# Altium footprint library SuperBot_PcbLib1.PcbLib: 44 footprints (part 1 of 3)
Each footprint in its own frame and in the unit in brackets; x right, y up, seen from the top. Pads: shape width x height; smd on the part's side, far side on the other; paste and mask are expansions set on the pad; w line width, h text height; cw(c..) or ccw(c..) is an arc to the next point about the centre after c.
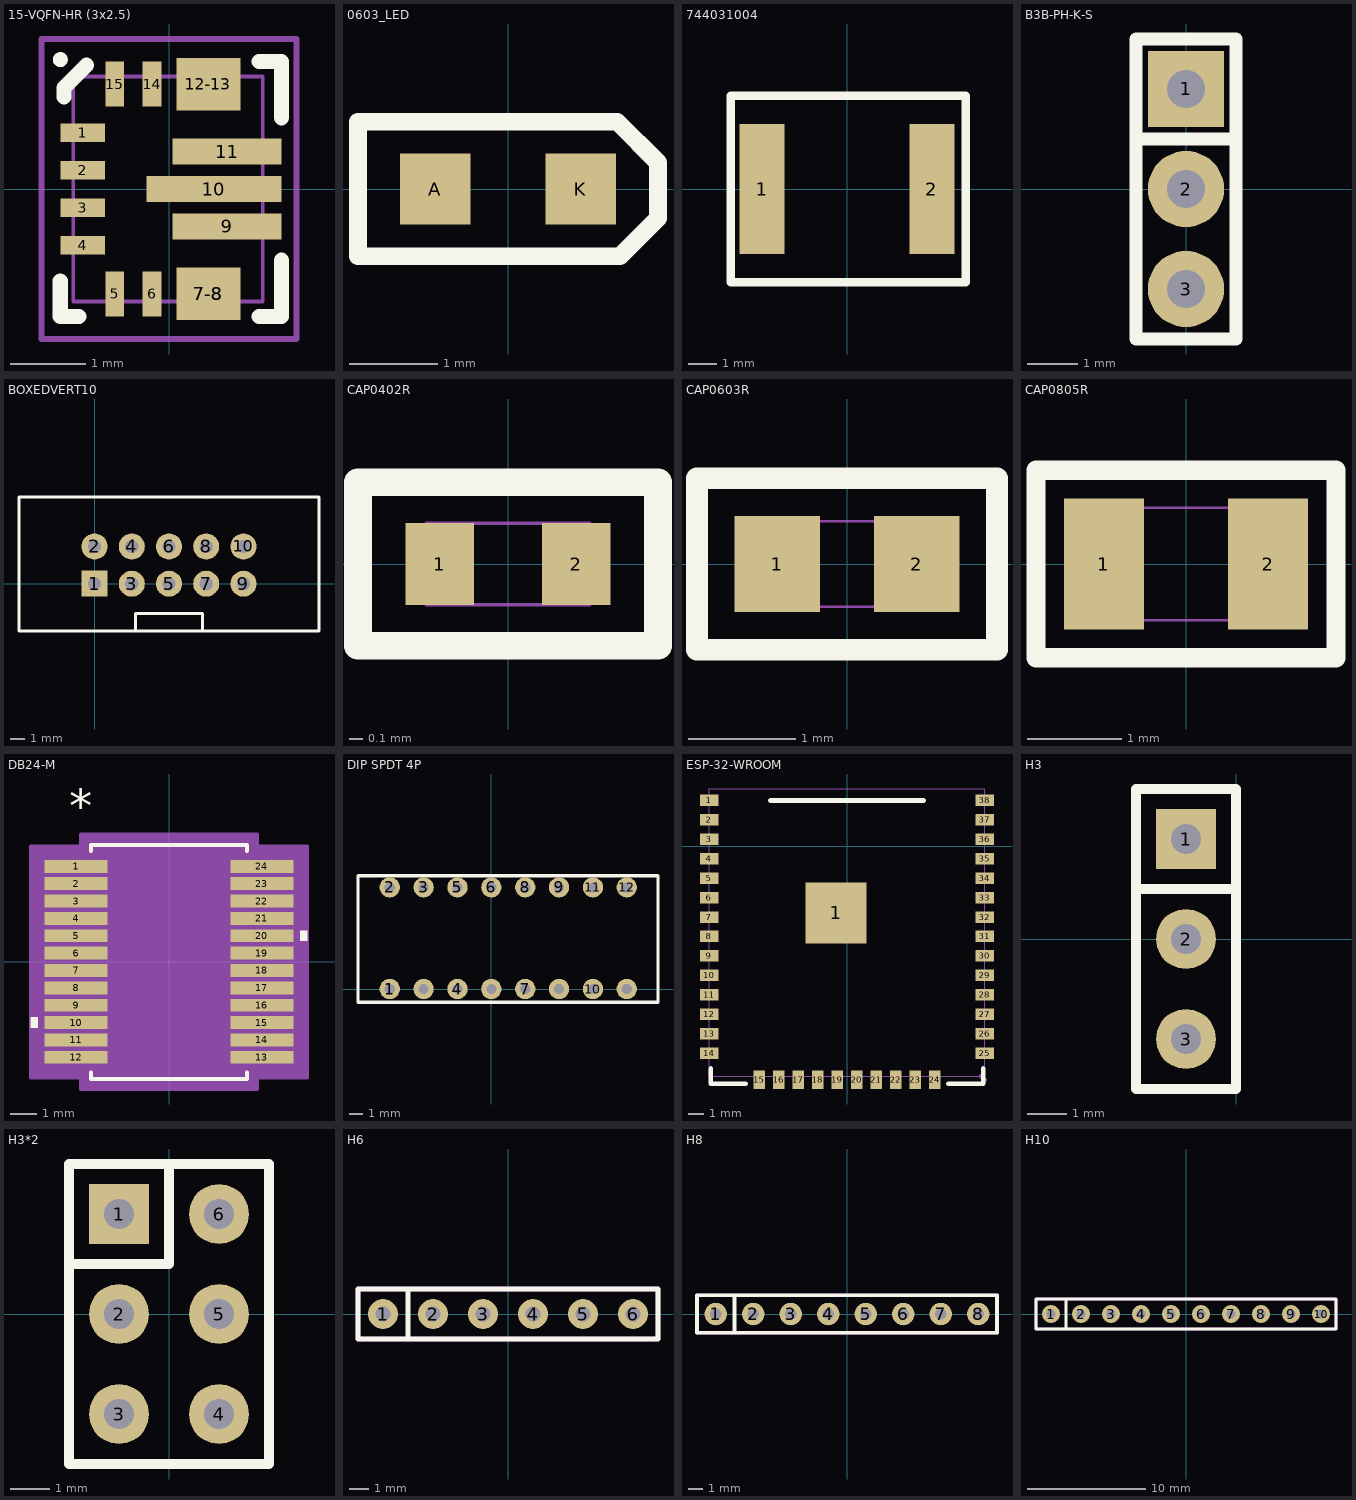
[diagram p0: the footprints below, top view; thin cyan lines are the x and y axes]

## 15-VQFN-HR (3x2.5) [mm] "TPS63070RNMR 15-VQFN-HR (3x2.5)"
height 1
pads (14):
  rect 0.6x0.25 smd: 1(-1.15,0.75) 2(-1.15,0.25) 3(-1.15,-0.25) 4(-1.15,-0.75)
  rect 0.25x0.6 smd: 5(-0.725,-1.4) 6(-0.225,-1.4) 14(-0.225,1.4) 15(-0.725,1.4)
  rect 0.85x0.7 smd mask-0.001: 7-8(0.525,-1.4) 7-8(0.525,-1.4) 12-13(0.525,1.4)
  rect 1.45x0.35 smd: 9(0.775,-0.5) 11(0.775,0.5)
  rect 1.8x0.35 smd: 10(0.6,0)
Top Overlay:
  circle w0.1: c-1.45,1.725 r0.05
  lines w0.203: -1.45,-1.225 -1.45,-1.7 -1.2,-1.7 ; -1.4,1.225 -1.4,1.35 -1.1,1.65 ; 1.2,-1.7 1.5,-1.7 1.5,-0.95 ; 1.2,1.7 1.5,1.7 1.5,0.95
Top Paste:
  region: 0.702,0.125 1.42,0.125 1.42,-0.125 0.702,-0.125
  region: -0.22,0.125 0.5,0.125 0.5,-0.125 -0.22,-0.125
  region: 0.877,0.625 1.451,0.625 1.451,0.375 0.877,0.375
  region: 0.101,0.625 0.676,0.625 0.676,0.375 0.101,0.375
  region: 0.878,-0.375 1.451,-0.375 1.451,-0.627 0.878,-0.627
  region: 0.101,-0.375 0.676,-0.375 0.676,-0.626 0.101,-0.626
  region: 0.4,-1.705 0.15,-1.705 0.15,-1.1 0.4,-1.1
  region: 0.65,-1.354 0.401,-1.354 0.401,-1.1 0.65,-1.1
  region: 0.9,-1.703 0.651,-1.703 0.651,-1.1 0.9,-1.1
  region: 0.652,1.7 0.9,1.7 0.9,1.103 0.652,1.103
  region: 0.4,1.35 0.65,1.35 0.65,1.101 0.4,1.101
  region: 0.15,1.7 0.4,1.7 0.4,1.101 0.15,1.101
Top Solder:
  region: -1.501,-0.426 -1.501,-0.075 -0.8,-0.075 -0.8,-0.426
  region: -1.501,-0.926 -1.501,-0.575 -0.8,-0.575 -0.8,-0.926
  region: -1.501,0.574 -1.501,0.926 -0.801,0.926 -0.801,0.574
  region: -1.501,0.074 -1.501,0.426 -0.801,0.426 -0.801,0.074
  region: -0.401,-1.05 -0.05,-1.05 -0.05,-1.754 -0.401,-1.754
  region: -0.902,-1.05 -0.55,-1.05 -0.55,-1.753 -0.902,-1.753
  region: -0.401,1.75 -0.05,1.75 -0.05,1.052 -0.401,1.052
  region: -0.901,1.75 -0.55,1.75 -0.55,1.052 -0.901,1.052
  region: 0.1,-0.375 1.45,-0.375 1.45,-0.626 0.1,-0.626
  region: -0.25,0.125 1.45,0.125 1.45,-0.125 -0.25,-0.125
  region: 0.1,0.625 1.45,0.625 1.45,0.376 0.1,0.376
  region: 0.651,1.7 0.9,1.7 0.9,1.102 0.651,1.102
  region: 0.4,1.35 0.65,1.35 0.65,1.101 0.4,1.101
  region: 0.15,1.7 0.4,1.7 0.4,1.101 0.15,1.101
  region: 0.651,-1.1 0.9,-1.1 0.9,-1.702 0.651,-1.702
  region: 0.401,-1.1 0.65,-1.1 0.65,-1.353 0.401,-1.353
  region: 0.15,-1.1 0.4,-1.1 0.4,-1.703 0.15,-1.703
Mechanical 1:
  lines w0.05: -1.275,-1.5 -1.275,1.5 1.25,1.5 1.25,-1.5 -1.275,-1.5
Mechanical 15:
  lines w0.076: -1.7,-2 -1.7,2 1.7,2 1.7,-2 -1.7,-2
3D body: height 1, standoff 0, extent -1.25,-1.5 1.25,1.5

## 0603_LED [mm]
pads (2):
  rect 0.8x0.8 smd: A(-0.825,0) K(0.825,0)
Top Overlay:
  lines w0.2: -1.7,-0.762 1.27,-0.762 1.7,-0.332 1.7,0.3 1.238,0.762 -1.7,0.762 -1.7,0.153 -1.7,-0.762

## 744031004 [mm] "Wurth Inductor"
height 1.65
pads (2):
  rect 1.6x4.6 smd: 1(-3,0) 2(3,0)
Top Overlay:
  lines w0.3: -4.1,-3.3 -4.1,3.3 4.2,3.3 4.2,-3.3 -4.1,-3.3
3D body "STEP-WE-TPC-3816-rev1.stp": height 1.65, standoff 0, extent -1.9,-1.9 1.9,1.9

## B3B-PH-K-S [mil]
pads (3):
  rect 60x60 hole 30: 1(0,78.74)
  round 60 hole 30: 2(0,0) 3(0,-78.74)
Top Overlay:
  lines w10: -39.37,39.37 39.37,39.37 ; -39.37,-118.11 -39.37,118.11 39.37,118.11 39.37,-118.11 -39.37,-118.11

## BOXEDVERT10 [mil] "IDC Header 2.54mm Boxed 10 pins"
height 346.46
pads (10):
  rect 70x70 hole 35.43: 1(0,0)
  round 70 hole 35.43: 2(0,100) 3(100,0) 4(100,100) 5(200,0) 6(200,100) 7(300,0) 8(300,100) 9(400,0) 10(400,100)
Top Overlay:
  lines w7.87: 110,-123.31 110,-80 290,-80 290,-123.31 ; -203,-126.5 -203,232.41 603,232.41 603,-126.5 -203,-126.5
3D body "User Library-BH-10__64 (3).step": height 358.87, standoff -117.51, extent -203.54,-129.13 603.55,237.01

## CAP0402R [mm] "Capacitor 0402 reflow soldering"
pads (2):
  rect 0.5x0.6 smd: 1(-0.5,0) 2(0.5,0)
Top Overlay:
  lines w0.203: -1.1,-0.6 -1.1,0.6 1.1,0.6 1.1,-0.6 -1.1,-0.6
Mechanical 15:
  lines w0.025: -0.6,-0.3 -0.6,0.3 0.6,0.3 0.6,-0.3 -0.6,-0.3
3D body "CAP0402.stp": height 0.2, standoff 0, extent -0.5,-0.3 0.5,0.3

## CAP0603R [mm] "capacitor 0603 reflow soldering"
pads (2):
  rect 0.8x0.9 smd: 1(-0.65,0) 2(0.65,0)
Top Overlay:
  lines w0.203: -1.4,-0.8 -1.4,0.8 1.4,0.8 1.4,-0.8 -1.4,-0.8
Mechanical 15:
  lines w0.025: -0.8,-0.4 -0.8,0.4 0.8,0.4 0.8,-0.4 -0.8,-0.4
3D body "CAP0603.stp": height 0.3, standoff 0, extent -0.8,-0.4 0.8,0.4

## CAP0805R [mm] "capacitor 0805 reflow soldering"
pads (2):
  rect 0.85x1.4 smd: 1(-0.875,0) 2(0.875,0)
Top Overlay:
  lines w0.203: -1.6,-1 1.6,-1 1.6,1 -1.6,1 -1.6,-1
Mechanical 15:
  lines w0.025: -1.1,-0.6 1.1,-0.6 1.1,0.6 -1.1,0.6 -1.1,-0.6
3D body "CAP0805.stp": height 0.78, standoff 0, extent -1,-0.625 1,0.625

## DB24-M [mil]
pads (24):
  rect 93x19 smd paste+0 mask+0: 1(-137,140.75) 2(-137,115.16) 3(-137,89.57) 4(-137,63.98) 5(-137,38.39) 6(-137,12.8) 7(-137,-12.8) 8(-137,-38.39) 9(-137,-63.98) 10(-137,-89.57) 11(-137,-115.16) 12(-137,-140.75) 13(137,-140.75) 14(137,-115.16) 15(137,-89.57) 16(137,-63.98) 17(137,-38.39) 18(137,-12.8) 19(137,12.8) 20(137,38.39) 21(137,63.98) 22(137,89.57) 23(137,115.16) 24(137,140.75)
Top Overlay:
  region: 193.5,45.89 203.5,45.89 203.5,30.89 193.5,30.89
  region: -193.5,-82.07 -203.5,-82.07 -203.5,-97.07 -193.5,-97.07
  lines w6: -115,-163.35 -115,-172.5 115,-172.5 115,-163.35 ; -115,163.35 -115,172.5 115,172.5 115,163.35
  text "*" at -147,204.75 h50
Mechanical 13:
  lines w0: -12,167.5 ccw(c0,167.5) 12,167.5
  lines w1: -161.5,-148.25 -110,-148.25 -110,-133.25 -161.5,-133.25 -161.5,-148.25 ; -161.5,-122.66 -110,-122.66 -110,-107.66 -161.5,-107.66 -161.5,-122.66 ; -161.5,-97.07 -110,-97.07 -110,-82.07 -161.5,-82.07 -161.5,-97.07 ; -161.5,-71.48 -110,-71.48 -110,-56.48 -161.5,-56.48 -161.5,-71.48 ; -161.5,-45.89 -110,-45.89 -110,-30.89 -161.5,-30.89 -161.5,-45.89 ; -161.5,-20.3 -110,-20.3 -110,-5.3 -161.5,-5.3 -161.5,-20.3 ; -161.5,5.3 -110,5.3 -110,20.3 -161.5,20.3 -161.5,5.3 ; -161.5,30.89 -110,30.89 -110,45.89 -161.5,45.89 -161.5,30.89 ; -161.5,56.48 -110,56.48 -110,71.48 -161.5,71.48 -161.5,56.48 ; -161.5,82.07 -110,82.07 -110,97.07 -161.5,97.07 -161.5,82.07 ; -161.5,107.66 -110,107.66 -110,122.66 -161.5,122.66 -161.5,107.66 ; -161.5,133.25 -110,133.25 -110,148.25 -161.5,148.25 -161.5,133.25 ; -110,-167.5 -110,167.5 110,167.5 110,-167.5 -110,-167.5 ; 110,-148.25 161.5,-148.25 161.5,-133.25 110,-133.25 110,-148.25 ; 110,-122.66 161.5,-122.66 161.5,-107.66 110,-107.66 110,-122.66 ; 110,-97.07 161.5,-97.07 161.5,-82.07 110,-82.07 110,-97.07 ; 110,-71.48 161.5,-71.48 161.5,-56.48 110,-56.48 110,-71.48 ; 110,-45.89 161.5,-45.89 161.5,-30.89 110,-30.89 110,-45.89 ; 110,-20.3 161.5,-20.3 161.5,-5.3 110,-5.3 110,-20.3 ; 110,5.3 161.5,5.3 161.5,20.3 110,20.3 110,5.3 ; 110,30.89 161.5,30.89 161.5,45.89 110,45.89 110,30.89 ; 110,56.48 161.5,56.48 161.5,71.48 110,71.48 110,56.48 ; 110,82.07 161.5,82.07 161.5,97.07 110,97.07 110,82.07 ; 110,107.66 161.5,107.66 161.5,122.66 110,122.66 110,107.66 ; 110,133.25 161.5,133.25 161.5,148.25 110,148.25 110,133.25
  text "*" at -95,164.5 h50
Mechanical 15:
  region: -130,-170.25 -203.5,-170.25 -203.5,170.25 -130,170.25 -130,187.5 130,187.5 130,170.25 203.5,170.25 203.5,-170.25 130,-170.25 130,-187.5 -130,-187.5
  lines w6: -203.5,-170.25 -130,-170.25 -130,-187.5 130,-187.5 130,-170.25 203.5,-170.25 203.5,170.25 130,170.25 130,187.5 -130,187.5 -130,170.25 -203.5,170.25 -203.5,-170.25
3D body: height 10, standoff 0, extent 0,0 10,10

## DIP SPDT 4P [mil] "Dip Switch SPDT 4 Position Through Hole Slide (Standard) Actuator 50mA 24VDC"
pads (16):
  round 60 hole 30: 1(-300,0) 2(-300,300) 3(-200,300) 4(-100,0) 5(-100,300) 6(0,300) 7(100,0) 8(100,300) 9(200,300) 10(300,0) 11(300,300) 12(400,300) ""(-200,0) ""(0,0) ""(200,0) ""(400,0)
Top Overlay:
  lines w10: -393.7,-39.37 51.18,-39.37 492.13,-39.37 492.13,334.65 -393.7,334.65 -393.7,-39.37
  text "." at -429.13,23.62 h59.06

## ESP-32-WROOM [mm]
pads (39):
  rect 1.2x0.75 smd: 1(-9,3.01) 2(-9,1.74) 3(-9,0.47) 4(-9,-0.8) 5(-9,-2.07) 6(-9,-3.34) 7(-9,-4.61) 8(-9,-5.88) 9(-9,-7.15) 10(-9,-8.42) 11(-9,-9.69) 12(-9,-10.96) 13(-9,-12.23) 14(-9,-13.5) 25(9,-13.5) 26(9,-12.23) 27(9,-10.96) 28(9,-9.69) 29(9,-8.42) 30(9,-7.15) 31(9,-5.88) 32(9,-4.61) 33(9,-3.34) 34(9,-2.07) 35(9,-0.8) 36(9,0.47) 37(9,1.74) 38(9,3.01)
  rect 4x4 smd: 1(-0.711,-4.343)
  rect 0.75x1.2 smd: 15(-5.715,-15.24) 16(-4.445,-15.24) 17(-3.175,-15.24) 18(-1.905,-15.24) 19(-0.635,-15.24) 20(0.635,-15.24) 21(1.905,-15.24) 22(3.175,-15.24) 23(4.445,-15.24) 24(5.715,-15.24)
Top Overlay:
  lines w0.3: -8.9,-14.5 -8.9,-15.5 -6.6,-15.5 ; -5,3 5,3 ; 6.6,-15.5 8.9,-15.5 8.9,-14.5
Mechanical 15:
  lines w0.025: 8.75,-15 -9,-15 -9,3.75 9,3.75 9,-15.25
  lines w0.3: 8.75,-15 9,-15.25
3D body "KiCAD-ESP-WROOM-32.step": height 3.04, standoff 0, extent -9.035,-15.028 9.035,10.512

## H3 [mil] "Headers 0.1mil pitch"
pads (3):
  rect 60x60 hole 30: 1(-50,100)
  round 60 hole 30: 2(-50,0) 3(-50,-100)
Top Overlay:
  lines w10: -100,50 0,50 ; -100,-150 -100,150 0,150 0,-150 -100,-150
3D body: height 98.43, standoff 0, extent -100,50 0.01,150
3D body: height 334.65, standoff -118.11, extent -62.69,87.23 -37.2,112.77
3D body: height 98.43, standoff 0, extent -100,-150 0.01,-50
3D body: height 334.65, standoff -118.11, extent -62.69,-112.77 -37.2,-87.23
3D body: height 98.43, standoff 0, extent -100,-50 0.01,50
3D body: height 334.65, standoff -118.11, extent -62.69,-12.77 -37.2,12.77

## H3*2 [mil] "Headers 0.1mil pitch"
pads (6):
  rect 60x60 hole 30: 1(-50,100)
  round 60 hole 30: 2(-50,0) 3(-50,-100) 4(50,-100) 5(50,0) 6(50,100)
Top Overlay:
  lines w10: -100,50 0,50 0,150 ; -100,-150 -100,150 100,150 100,-150 -100,-150
3D body: height 98.43, standoff 0, extent -100,50 0.01,150
3D body: height 334.65, standoff -118.11, extent -62.69,87.23 -37.2,112.77
3D body: height 98.43, standoff 0, extent 0,50 100.01,150
3D body: height 334.65, standoff -118.11, extent 37.31,87.23 62.8,112.77
3D body: height 98.43, standoff 0, extent 0,-50 100.01,50
3D body: height 334.65, standoff -118.11, extent 37.31,-12.77 62.8,12.77
3D body: height 98.43, standoff 0, extent 0,-150 100.01,-50
3D body: height 334.65, standoff -118.11, extent 37.31,-112.77 62.8,-87.23
3D body: height 98.43, standoff 0, extent -100,-150 0.01,-50
3D body: height 334.65, standoff -118.11, extent -62.69,-112.77 -37.2,-87.23
3D body: height 98.43, standoff 0, extent -100,-50 0.01,50
3D body: height 334.65, standoff -118.11, extent -62.69,-12.77 -37.2,12.77

## H6 [mil] "Headers 0.1mil pitch"
pads (6):
  round 60 hole 30: 1(-250,0) 2(-150,0) 3(-50,0) 4(50,0) 5(150,0) 6(250,0)
Top Overlay:
  lines w10: -200,-50 -200,50 ; -300,-50 300,-50 300,50 -300,50 -300,-50
Mechanical 15:
  lines w10: -200,50 300,50 ; -300,50 300,50 ; -300,50 -300,-50 300,-50 300,50 ; -300,50 300,50
3D body: height 334.65, standoff -118.11, extent 237.31,-12.76 262.8,12.78
3D body: height 98.43, standoff 0, extent 200,-50 300.01,50.01
3D body: height 334.65, standoff -118.11, extent 137.31,-12.76 162.8,12.78
3D body: height 98.43, standoff 0, extent 100,-50 200.01,50.01
3D body: height 334.65, standoff -118.11, extent 37.31,-12.76 62.8,12.78
3D body: height 98.43, standoff 0, extent 0,-50 100.01,50.01
3D body: height 334.65, standoff -118.11, extent -62.69,-12.76 -37.2,12.78
3D body: height 98.43, standoff 0, extent -100,-50 0.01,50.01
3D body: height 334.65, standoff -118.11, extent -162.69,-12.76 -137.2,12.78
3D body: height 98.43, standoff 0, extent -200,-50 -99.99,50.01
3D body: height 334.65, standoff -118.11, extent -262.69,-12.76 -237.2,12.78
3D body: height 98.43, standoff 0, extent -300,-50 -199.99,50.01

## H8 [mil] "Headers 0.1mil pitch"
pads (8):
  round 60 hole 30: 1(-350,0) 2(-250,0) 3(-150,0) 4(-50,0) 5(50,0) 6(150,0) 7(250,0) 8(350,0)
Top Overlay:
  lines w10: -300,-50 -300,50 ; -400,-50 -400,50 400,50 400,-50 -400,-50
Mechanical 15:
  lines w10: -400,-50 -400,50 400,50 400,-50 -400,-50
3D body: height 334.65, standoff -118.11, extent 337.31,-12.76 362.8,12.78
3D body: height 98.43, standoff 0, extent 300,-50 400.01,50.01
3D body: height 334.65, standoff -118.11, extent 237.31,-12.76 262.8,12.78
3D body: height 98.43, standoff 0, extent 200,-50 300.01,50.01
3D body: height 334.65, standoff -118.11, extent 137.31,-12.76 162.8,12.78
3D body: height 98.43, standoff 0, extent 100,-50 200.01,50.01
3D body: height 334.65, standoff -118.11, extent 37.31,-12.76 62.8,12.78
3D body: height 98.43, standoff 0, extent 0,-50 100.01,50.01
3D body: height 334.65, standoff -118.11, extent -62.69,-12.76 -37.2,12.78
3D body: height 98.43, standoff 0, extent -100,-50 0.01,50.01
3D body: height 334.65, standoff -118.11, extent -162.69,-12.76 -137.2,12.78
3D body: height 98.43, standoff 0, extent -200,-50 -99.99,50.01
3D body: height 334.65, standoff -118.11, extent -262.69,-12.76 -237.2,12.78
3D body: height 98.43, standoff 0, extent -300,-50 -199.99,50.01
3D body: height 334.65, standoff -118.11, extent -362.69,-12.76 -337.2,12.78
3D body: height 98.43, standoff 0, extent -400,-50 -299.99,50.01

## H10 [mil] "Headers 0.1mil pitch"
pads (10):
  round 60 hole 30: 1(-450,0) 2(-350,0) 3(-250,0) 4(-150,0) 5(-50,0) 6(50,0) 7(150,0) 8(250,0) 9(350,0) 10(450,0)
Top Overlay:
  lines w10: -400,-50 -400,50 ; -500,-50 -500,50 500,50 500,-50 -500,-50
Mechanical 15:
  lines w10: -500,-50 -500,50 500,50 500,-50 -500,-50
3D body: height 334.65, standoff -118.11, extent 437.31,-12.76 462.8,12.78
3D body: height 98.43, standoff 0, extent 400,-50 500.01,50.01
3D body: height 334.65, standoff -118.11, extent 337.31,-12.76 362.8,12.78
3D body: height 98.43, standoff 0, extent 300,-50 400.01,50.01
3D body: height 334.65, standoff -118.11, extent 237.31,-12.76 262.8,12.78
3D body: height 98.43, standoff 0, extent 200,-50 300.01,50.01
3D body: height 334.65, standoff -118.11, extent 137.31,-12.76 162.8,12.78
3D body: height 98.43, standoff 0, extent 100,-50 200.01,50.01
3D body: height 334.65, standoff -118.11, extent 37.31,-12.76 62.8,12.78
3D body: height 98.43, standoff 0, extent 0,-50 100.01,50.01
3D body: height 334.65, standoff -118.11, extent -62.69,-12.76 -37.2,12.78
3D body: height 98.43, standoff 0, extent -100,-50 0.01,50.01
3D body: height 334.65, standoff -118.11, extent -162.69,-12.76 -137.2,12.78
3D body: height 98.43, standoff 0, extent -200,-50 -99.99,50.01
3D body: height 334.65, standoff -118.11, extent -262.69,-12.76 -237.2,12.78
3D body: height 98.43, standoff 0, extent -300,-50 -199.99,50.01
3D body: height 334.65, standoff -118.11, extent -362.69,-12.76 -337.2,12.78
3D body: height 98.43, standoff 0, extent -400,-50 -299.99,50.01
3D body: height 98.43, standoff 0, extent -500,-50 -399.99,50.01
3D body: height 334.65, standoff -118.11, extent -462.69,-12.76 -437.2,12.78